# Altium schematic symbol library UDZLVTE-17150.SchLib: 1 symbol
Pins are listed as number, name and electrical type; pins without a type are passive.

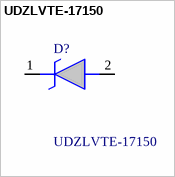
[diagram p0: symbol UDZLVTE-17150]

## UDZLVTE-17150
designator D?
ROHM - UDZLVTE-17150 - Zener Single Diode, 150 V, 200 mW, SOD-323FL, 2 Pins, 150 C; Manufacturer_Name: ROHM Semiconductor; Geometry.Height: 0.9mm; Mouser Part Number: 755-UDZLVTE-17150; Mouser Price/Stock: https://www.mouser.co.uk/ProductDetail/ROHM-Semiconductor/UDZLVTE-17150/?qs=uPV7ZbtEjc5dJhqDrwh%252BYA%3D%3D; Manufacturer_Part_Number: UDZLVTE-17150; Datasheet Link: https://componentsearchengine.com/Datasheets/2/UDZLVTE-17150.pdf
footprint SODFL2512X90N
pins: 1 K, 2 A